# Altium schematic symbol library jumper_SPDT.SchLib: 1 symbol
Pins are listed as number, name and electrical type; pins without a type are passive.

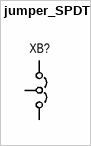
[diagram p0: symbol jumper_SPDT]

## jumper_SPDT
designator XB?
pins: 1, 2, 3